# EAGLE library part BASICATOMPRO64 (library basicmicro)
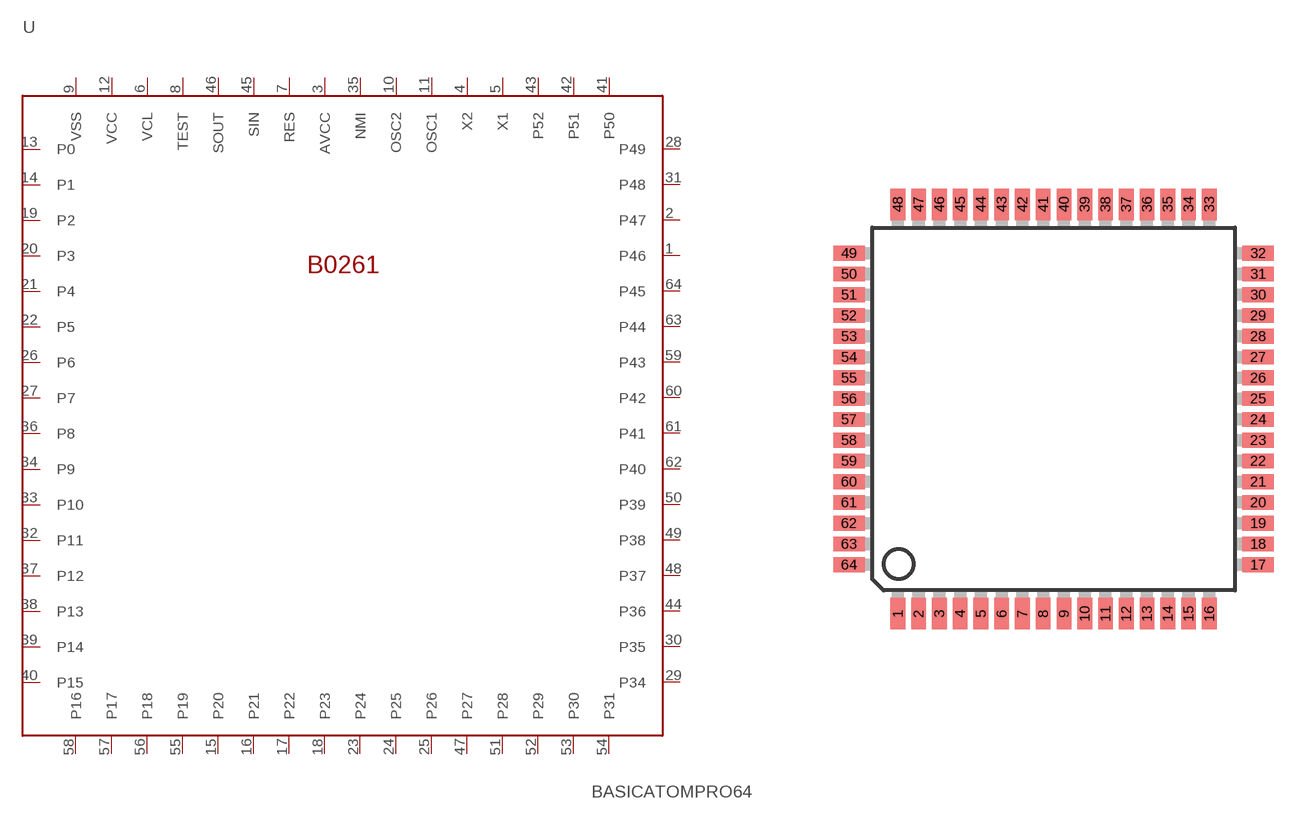
[diagram p13: symbol with the pads of TQFP64; footprint TQFP64]

Designator prefix -

## BASICATOMPRO64  [TQFP64]
1  P46
2  P47
3  AVCC
4  X2
5  X1
6  VCL  pwr
7  RES  pwr
8  TEST
9  VSS  pwr
10  OSC2
11  OSC1
12  VCC  pwr
13  P0
14  P1
15  P20
16  P21
17  P22
18  P23
19  P2
20  P3
21  P4
22  P5
23  P24
24  P25
25  P26
26  P6
27  P7
28  P49
29  P34
30  P35
31  P48
32  P11
33  P10
34  P9
35  NMI  pwr
36  P8
37  P12
38  P13
39  P14
40  P15
41  P50
42  P51
43  P52
44  P36
45  SIN
46  SOUT
47  P27
48  P37
49  P38
50  P39
51  P28
52  P29
53  P30
54  P31
55  P19
56  P18
57  P17
58  P16
59  P43
60  P42
61  P41
62  P40
63  P44
64  P45

## Footprint TQFP64 (pad centres in mm)
smd 0.559 x 1.194: 1 -17.335,23.99; 2 -16.548,23.99; 3 -15.761,23.99; 4 -14.973,23.99; 5 -14.186,23.99; 6 -13.399,23.99; 7 -12.611,23.99; 8 -11.824,23.99; 9 -11.036,23.99; 10 -10.249,23.99; 11 -9.461,23.99; 12 -8.674,23.99; 13 -7.887,23.99; 14 -7.099,23.99; 15 -6.312,23.99; 16 -5.524,23.99; 33 -5.524,39.51; 34 -6.312,39.51; 35 -7.099,39.51; 36 -7.887,39.51; 37 -8.674,39.51; 38 -9.461,39.51; 39 -10.249,39.51; 40 -11.036,39.51; 41 -11.824,39.51; 42 -12.611,39.51; 43 -13.399,39.51; 44 -14.186,39.51; 45 -14.973,39.51; 46 -15.761,39.51; 47 -16.548,39.51; 48 -17.335,39.51
smd 1.194 x 0.559: 17 -3.67,25.845; 18 -3.67,26.632; 19 -3.67,27.419; 20 -3.67,28.207; 21 -3.67,28.994; 22 -3.67,29.782; 23 -3.67,30.569; 24 -3.67,31.356; 25 -3.67,32.144; 26 -3.67,32.931; 27 -3.67,33.718; 28 -3.67,34.506; 29 -3.67,35.293; 30 -3.67,36.081; 31 -3.67,36.868; 32 -3.67,37.656; 49 -19.19,37.656; 50 -19.19,36.868; 51 -19.19,36.081; 52 -19.19,35.293; 53 -19.19,34.506; 54 -19.19,33.718; 55 -19.19,32.931; 56 -19.19,32.144; 57 -19.19,31.356; 58 -19.19,30.569; 59 -19.19,29.782; 60 -19.19,28.994; 61 -19.19,28.207; 62 -19.19,27.419; 63 -19.19,26.632; 64 -19.19,25.845